# Altium schematic symbol library Resistors.SchLib: 113 symbols (part 1 of 2)
Pins are listed as number, name and electrical type; pins without a type are passive.

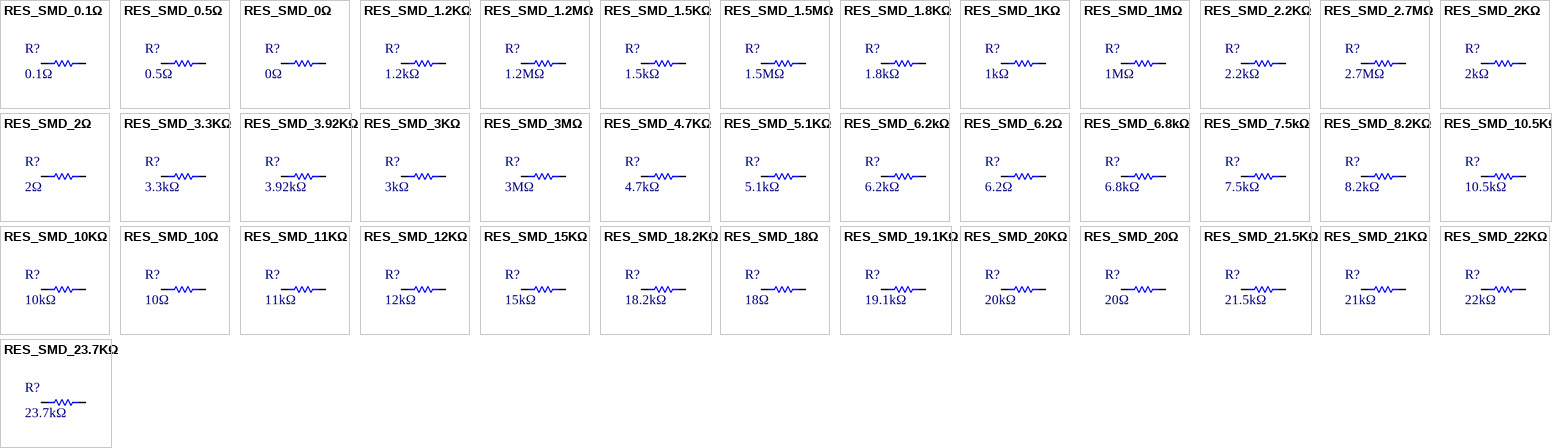
[diagram p0: symbols RES_SMD_0.1Ω to RES_SMD_23.7KΩ]

## RES_SMD_0.1Ω
designator R?, comment 0.1Ω
Resistor, Thick Film Resistor, SMD, 0.1Ω, ±5%, Chip Resistor - Surface Mount, ROHS; Value: 0.1Ω
footprint RES_SMD_R0201A_(M0603A) (Resistor, SMD, 0.5x0.25mm, 0201)
footprint RES_SMD_R0201_(M0603) (Resistor, SMD, 0.5x0.25mm, 0201)
footprint RES_SMD_R0402A_(M1005A) (Resistor, SMD, 1.0x0.5mm, 0402)
footprint RES_SMD_R0402_(M1005) (Resistor, SMD, 1.0x0.5mm, 0402)
footprint RES_SMD_R0603A_(M1608A) (Resistor, SMD, 1.6x0.8mm, 0603)
footprint RES_SMD_R0603_(M1608) (Resistor, SMD, 1.6x0.8mm, 0603)
footprint RES_SMD_R0805A_(M2012A) (Resistor, SMD, 2.0x1.3mm, 0805)
footprint RES_SMD_R0805_(M2012) (Resistor, SMD, 2.0x1.3mm, 0805)
footprint RES_SMD_R1206A_(M3216A) (Resistor, SMD, 3.2x1.6mm, 1206)
footprint RES_SMD_R1206_(M3216) (Resistor, SMD, 3.2x1.6mm, 1206)
footprint RES_SMD_R2512_(M6332) (Resistor, SMD, 2510)
footprint RES_SMD_R0603_(M1608)_R0402A_(M1005A) (Resistor, SMD, 1.6x0.8mm, 0603)
pins: 1, 2

## RES_SMD_0.5Ω
designator R?, comment 0.5Ω
Resistor, Thick Film Resistor, SMD, 0.5Ω, ±5%, Chip Resistor - Surface Mount, ROHS; Value: 0.5Ω
footprint RES_SMD_R0201A_(M0603A) (Resistor, SMD, 0.5x0.25mm, 0201)
footprint RES_SMD_R0201_(M0603) (Resistor, SMD, 0.5x0.25mm, 0201)
footprint RES_SMD_R0402A_(M1005A) (Resistor, SMD, 1.0x0.5mm, 0402)
footprint RES_SMD_R0402_(M1005) (Resistor, SMD, 1.0x0.5mm, 0402)
footprint RES_SMD_R0603A_(M1608A) (Resistor, SMD, 1.6x0.8mm, 0603)
footprint RES_SMD_R0603_(M1608) (Resistor, SMD, 1.6x0.8mm, 0603)
footprint RES_SMD_R0805A_(M2012A) (Resistor, SMD, 2.0x1.3mm, 0805)
footprint RES_SMD_R0805_(M2012) (Resistor, SMD, 2.0x1.3mm, 0805)
footprint RES_SMD_R1206A_(M3216A) (Resistor, SMD, 3.2x1.6mm, 1206)
footprint RES_SMD_R1206_(M3216) (Resistor, SMD, 3.2x1.6mm, 1206)
footprint RES_SMD_R2512_(M6332) (Resistor, SMD, 2510)
footprint RES_SMD_R0603_(M1608)_R0402A_(M1005A) (Resistor, SMD, 1.6x0.8mm, 0603)
pins: 1, 2

## RES_SMD_0Ω
designator R?, comment 0Ω
Resistor, Thick Film Resistor, SMD, 0Ω, ±5%, Chip Resistor - Surface Mount, ROHS; Value: 0Ω
footprint RES_SMD_R0201A_(M0603A) (Resistor, SMD, 0.5x0.25mm, 0201)
footprint RES_SMD_R0201_(M0603) (Resistor, SMD, 0.5x0.25mm, 0201)
footprint RES_SMD_R0402A_(M1005A) (Resistor, SMD, 1.0x0.5mm, 0402)
footprint RES_SMD_R0402_(M1005) (Resistor, SMD, 1.0x0.5mm, 0402)
footprint RES_SMD_R0603A_(M1608A) (Resistor, SMD, 1.6x0.8mm, 0603)
footprint RES_SMD_R0603_(M1608) (Resistor, SMD, 1.6x0.8mm, 0603)
footprint RES_SMD_R0805A_(M2012A) (Resistor, SMD, 2.0x1.3mm, 0805)
footprint RES_SMD_R0805_(M2012) (Resistor, SMD, 2.0x1.3mm, 0805)
footprint RES_SMD_R1206A_(M3216A) (Resistor, SMD, 3.2x1.6mm, 1206)
footprint RES_SMD_R1206_(M3216) (Resistor, SMD, 3.2x1.6mm, 1206)
footprint RES_SMD_R2512_(M6332) (Resistor, SMD, 2510)
footprint RES_SMD_R0603_(M1608)_R0402A_(M1005A) (Resistor, SMD, 1.6x0.8mm, 0603)
pins: 1, 2

## RES_SMD_1.2KΩ
designator R?, comment 1.2kΩ
Resistor, Thick Film Resistor, SMD, 1.2kΩ, ±5%, Chip Resistor - Surface Mount, ROHS; Value: 1.2kΩ
footprint RES_SMD_R0201A_(M0603A) (Resistor, SMD, 0.5x0.25mm, 0201)
footprint RES_SMD_R0201_(M0603) (Resistor, SMD, 0.5x0.25mm, 0201)
footprint RES_SMD_R0402A_(M1005A) (Resistor, SMD, 1.0x0.5mm, 0402)
footprint RES_SMD_R0402_(M1005) (Resistor, SMD, 1.0x0.5mm, 0402)
footprint RES_SMD_R0603A_(M1608A) (Resistor, SMD, 1.6x0.8mm, 0603)
footprint RES_SMD_R0603_(M1608) (Resistor, SMD, 1.6x0.8mm, 0603)
footprint RES_SMD_R0805A_(M2012A) (Resistor, SMD, 2.0x1.3mm, 0805)
footprint RES_SMD_R0805_(M2012) (Resistor, SMD, 2.0x1.3mm, 0805)
footprint RES_SMD_R1206A_(M3216A) (Resistor, SMD, 3.2x1.6mm, 1206)
footprint RES_SMD_R1206_(M3216) (Resistor, SMD, 3.2x1.6mm, 1206)
footprint RES_SMD_R2512_(M6332) (Resistor, SMD, 2510)
footprint RES_SMD_R0603_(M1608)_R0402A_(M1005A) (Resistor, SMD, 1.6x0.8mm, 0603)
pins: 1, 2

## RES_SMD_1.2MΩ
designator R?, comment 1.2MΩ
Resistor, Thick Film Resistor, SMD, 1.2MΩ, ±5%, Chip Resistor - Surface Mount, ROHS; Value: 1.2MΩ
footprint RES_SMD_R0201A_(M0603A) (Resistor, SMD, 0.5x0.25mm, 0201)
footprint RES_SMD_R0201_(M0603) (Resistor, SMD, 0.5x0.25mm, 0201)
footprint RES_SMD_R0402A_(M1005A) (Resistor, SMD, 1.0x0.5mm, 0402)
footprint RES_SMD_R0402_(M1005) (Resistor, SMD, 1.0x0.5mm, 0402)
footprint RES_SMD_R0603A_(M1608A) (Resistor, SMD, 1.6x0.8mm, 0603)
footprint RES_SMD_R0603_(M1608) (Resistor, SMD, 1.6x0.8mm, 0603)
footprint RES_SMD_R0805A_(M2012A) (Resistor, SMD, 2.0x1.3mm, 0805)
footprint RES_SMD_R0805_(M2012) (Resistor, SMD, 2.0x1.3mm, 0805)
footprint RES_SMD_R1206A_(M3216A) (Resistor, SMD, 3.2x1.6mm, 1206)
footprint RES_SMD_R1206_(M3216) (Resistor, SMD, 3.2x1.6mm, 1206)
footprint RES_SMD_R2512_(M6332) (Resistor, SMD, 2510)
footprint RES_SMD_R0603_(M1608)_R0402A_(M1005A) (Resistor, SMD, 1.6x0.8mm, 0603)
pins: 1, 2

## RES_SMD_1.5KΩ
designator R?, comment 1.5kΩ
Resistor, Thick Film Resistor, SMD, 1.5kΩ, ±5%, Chip Resistor - Surface Mount, ROHS; Value: 1.5kΩ
footprint RES_SMD_R0201A_(M0603A) (Resistor, SMD, 0.5x0.25mm, 0201)
footprint RES_SMD_R0201_(M0603) (Resistor, SMD, 0.5x0.25mm, 0201)
footprint RES_SMD_R0402A_(M1005A) (Resistor, SMD, 1.0x0.5mm, 0402)
footprint RES_SMD_R0402_(M1005) (Resistor, SMD, 1.0x0.5mm, 0402)
footprint RES_SMD_R0603A_(M1608A) (Resistor, SMD, 1.6x0.8mm, 0603)
footprint RES_SMD_R0603_(M1608) (Resistor, SMD, 1.6x0.8mm, 0603)
footprint RES_SMD_R0805A_(M2012A) (Resistor, SMD, 2.0x1.3mm, 0805)
footprint RES_SMD_R0805_(M2012) (Resistor, SMD, 2.0x1.3mm, 0805)
footprint RES_SMD_R1206A_(M3216A) (Resistor, SMD, 3.2x1.6mm, 1206)
footprint RES_SMD_R1206_(M3216) (Resistor, SMD, 3.2x1.6mm, 1206)
footprint RES_SMD_R2512_(M6332) (Resistor, SMD, 2510)
footprint RES_SMD_R0603_(M1608)_R0402A_(M1005A) (Resistor, SMD, 1.6x0.8mm, 0603)
pins: 1, 2

## RES_SMD_1.5MΩ
designator R?, comment 1.5MΩ
Resistor, Thick Film Resistor, SMD, 1.5MΩ, ±5%, Chip Resistor - Surface Mount, ROHS; Value: 1.5MΩ
footprint RES_SMD_R0201A_(M0603A) (Resistor, SMD, 0.5x0.25mm, 0201)
footprint RES_SMD_R0201_(M0603) (Resistor, SMD, 0.5x0.25mm, 0201)
footprint RES_SMD_R0402A_(M1005A) (Resistor, SMD, 1.0x0.5mm, 0402)
footprint RES_SMD_R0402_(M1005) (Resistor, SMD, 1.0x0.5mm, 0402)
footprint RES_SMD_R0603A_(M1608A) (Resistor, SMD, 1.6x0.8mm, 0603)
footprint RES_SMD_R0603_(M1608) (Resistor, SMD, 1.6x0.8mm, 0603)
footprint RES_SMD_R0805A_(M2012A) (Resistor, SMD, 2.0x1.3mm, 0805)
footprint RES_SMD_R0805_(M2012) (Resistor, SMD, 2.0x1.3mm, 0805)
footprint RES_SMD_R1206A_(M3216A) (Resistor, SMD, 3.2x1.6mm, 1206)
footprint RES_SMD_R1206_(M3216) (Resistor, SMD, 3.2x1.6mm, 1206)
footprint RES_SMD_R2512_(M6332) (Resistor, SMD, 2510)
footprint RES_SMD_R0603_(M1608)_R0402A_(M1005A) (Resistor, SMD, 1.6x0.8mm, 0603)
pins: 1, 2

## RES_SMD_1.8KΩ
designator R?, comment 1.8kΩ
Resistor, Thick Film Resistor, SMD, 1.8kΩ, ±5%, Chip Resistor - Surface Mount, ROHS; Value: 1.8kΩ
footprint RES_SMD_R0201A_(M0603A) (Resistor, SMD, 0.5x0.25mm, 0201)
footprint RES_SMD_R0201_(M0603) (Resistor, SMD, 0.5x0.25mm, 0201)
footprint RES_SMD_R0402A_(M1005A) (Resistor, SMD, 1.0x0.5mm, 0402)
footprint RES_SMD_R0402_(M1005) (Resistor, SMD, 1.0x0.5mm, 0402)
footprint RES_SMD_R0603A_(M1608A) (Resistor, SMD, 1.6x0.8mm, 0603)
footprint RES_SMD_R0603_(M1608) (Resistor, SMD, 1.6x0.8mm, 0603)
footprint RES_SMD_R0805A_(M2012A) (Resistor, SMD, 2.0x1.3mm, 0805)
footprint RES_SMD_R0805_(M2012) (Resistor, SMD, 2.0x1.3mm, 0805)
footprint RES_SMD_R1206A_(M3216A) (Resistor, SMD, 3.2x1.6mm, 1206)
footprint RES_SMD_R1206_(M3216) (Resistor, SMD, 3.2x1.6mm, 1206)
footprint RES_SMD_R2512_(M6332) (Resistor, SMD, 2510)
footprint RES_SMD_R0603_(M1608)_R0402A_(M1005A) (Resistor, SMD, 1.6x0.8mm, 0603)
pins: 1, 2

## RES_SMD_1KΩ
designator R?, comment 1kΩ
Resistor, Thick Film Resistor, SMD, 1kΩ, ±5%, Chip Resistor - Surface Mount, ROHS; Value: 1kΩ
footprint RES_SMD_R0201A_(M0603A) (Resistor, SMD, 0.5x0.25mm, 0201)
footprint RES_SMD_R0201_(M0603) (Resistor, SMD, 0.5x0.25mm, 0201)
footprint RES_SMD_R0402A_(M1005A) (Resistor, SMD, 1.0x0.5mm, 0402)
footprint RES_SMD_R0402_(M1005) (Resistor, SMD, 1.0x0.5mm, 0402)
footprint RES_SMD_R0603A_(M1608A) (Resistor, SMD, 1.6x0.8mm, 0603)
footprint RES_SMD_R0603_(M1608) (Resistor, SMD, 1.6x0.8mm, 0603)
footprint RES_SMD_R0805A_(M2012A) (Resistor, SMD, 2.0x1.3mm, 0805)
footprint RES_SMD_R0805_(M2012) (Resistor, SMD, 2.0x1.3mm, 0805)
footprint RES_SMD_R1206A_(M3216A) (Resistor, SMD, 3.2x1.6mm, 1206)
footprint RES_SMD_R1206_(M3216) (Resistor, SMD, 3.2x1.6mm, 1206)
footprint RES_SMD_R2512_(M6332) (Resistor, SMD, 2510)
footprint RES_SMD_R0603_(M1608)_R0402A_(M1005A) (Resistor, SMD, 1.6x0.8mm, 0603)
pins: 1, 2

## RES_SMD_1MΩ
designator R?, comment 1MΩ
Resistor, Thick Film Resistor, SMD, 1MΩ, ±5%, Chip Resistor - Surface Mount, ROHS; Value: 1MΩ
footprint RES_SMD_R0201A_(M0603A) (Resistor, SMD, 0.5x0.25mm, 0201)
footprint RES_SMD_R0201_(M0603) (Resistor, SMD, 0.5x0.25mm, 0201)
footprint RES_SMD_R0402A_(M1005A) (Resistor, SMD, 1.0x0.5mm, 0402)
footprint RES_SMD_R0402_(M1005) (Resistor, SMD, 1.0x0.5mm, 0402)
footprint RES_SMD_R0603A_(M1608A) (Resistor, SMD, 1.6x0.8mm, 0603)
footprint RES_SMD_R0603_(M1608) (Resistor, SMD, 1.6x0.8mm, 0603)
footprint RES_SMD_R0805A_(M2012A) (Resistor, SMD, 2.0x1.3mm, 0805)
footprint RES_SMD_R0805_(M2012) (Resistor, SMD, 2.0x1.3mm, 0805)
footprint RES_SMD_R1206A_(M3216A) (Resistor, SMD, 3.2x1.6mm, 1206)
footprint RES_SMD_R1206_(M3216) (Resistor, SMD, 3.2x1.6mm, 1206)
footprint RES_SMD_R2512_(M6332) (Resistor, SMD, 2510)
footprint RES_SMD_R0603_(M1608)_R0402A_(M1005A) (Resistor, SMD, 1.6x0.8mm, 0603)
pins: 1, 2

## RES_SMD_2.2KΩ
designator R?, comment 2.2kΩ
Resistor, Thick Film Resistor, SMD, 2.2kΩ, ±5%, Chip Resistor - Surface Mount, ROHS; Value: 2.2kΩ
footprint RES_SMD_R0201A_(M0603A) (Resistor, SMD, 0.5x0.25mm, 0201)
footprint RES_SMD_R0201_(M0603) (Resistor, SMD, 0.5x0.25mm, 0201)
footprint RES_SMD_R0402A_(M1005A) (Resistor, SMD, 1.0x0.5mm, 0402)
footprint RES_SMD_R0402_(M1005) (Resistor, SMD, 1.0x0.5mm, 0402)
footprint RES_SMD_R0603A_(M1608A) (Resistor, SMD, 1.6x0.8mm, 0603)
footprint RES_SMD_R0603_(M1608) (Resistor, SMD, 1.6x0.8mm, 0603)
footprint RES_SMD_R0805A_(M2012A) (Resistor, SMD, 2.0x1.3mm, 0805)
footprint RES_SMD_R0805_(M2012) (Resistor, SMD, 2.0x1.3mm, 0805)
footprint RES_SMD_R1206A_(M3216A) (Resistor, SMD, 3.2x1.6mm, 1206)
footprint RES_SMD_R1206_(M3216) (Resistor, SMD, 3.2x1.6mm, 1206)
footprint RES_SMD_R2512_(M6332) (Resistor, SMD, 2510)
footprint RES_SMD_R0603_(M1608)_R0402A_(M1005A) (Resistor, SMD, 1.6x0.8mm, 0603)
pins: 1, 2

## RES_SMD_2.7MΩ
designator R?, comment 2.7MΩ
Resistor, Thick Film Resistor, SMD, 2.7MΩ, ±5%, Chip Resistor - Surface Mount, ROHS; Value: 2.7MΩ
footprint RES_SMD_R0201A_(M0603A) (Resistor, SMD, 0.5x0.25mm, 0201)
footprint RES_SMD_R0201_(M0603) (Resistor, SMD, 0.5x0.25mm, 0201)
footprint RES_SMD_R0402A_(M1005A) (Resistor, SMD, 1.0x0.5mm, 0402)
footprint RES_SMD_R0402_(M1005) (Resistor, SMD, 1.0x0.5mm, 0402)
footprint RES_SMD_R0603A_(M1608A) (Resistor, SMD, 1.6x0.8mm, 0603)
footprint RES_SMD_R0603_(M1608) (Resistor, SMD, 1.6x0.8mm, 0603)
footprint RES_SMD_R0805A_(M2012A) (Resistor, SMD, 2.0x1.3mm, 0805)
footprint RES_SMD_R0805_(M2012) (Resistor, SMD, 2.0x1.3mm, 0805)
footprint RES_SMD_R1206A_(M3216A) (Resistor, SMD, 3.2x1.6mm, 1206)
footprint RES_SMD_R1206_(M3216) (Resistor, SMD, 3.2x1.6mm, 1206)
footprint RES_SMD_R2512_(M6332) (Resistor, SMD, 2510)
footprint RES_SMD_R0603_(M1608)_R0402A_(M1005A) (Resistor, SMD, 1.6x0.8mm, 0603)
pins: 1, 2

## RES_SMD_2KΩ
designator R?, comment 2kΩ
Resistor, Thick Film Resistor, SMD, 2kΩ, ±5%, Chip Resistor - Surface Mount, ROHS; Value: 2kΩ
footprint RES_SMD_R0201A_(M0603A) (Resistor, SMD, 0.5x0.25mm, 0201)
footprint RES_SMD_R0201_(M0603) (Resistor, SMD, 0.5x0.25mm, 0201)
footprint RES_SMD_R0402A_(M1005A) (Resistor, SMD, 1.0x0.5mm, 0402)
footprint RES_SMD_R0402_(M1005) (Resistor, SMD, 1.0x0.5mm, 0402)
footprint RES_SMD_R0603A_(M1608A) (Resistor, SMD, 1.6x0.8mm, 0603)
footprint RES_SMD_R0603_(M1608) (Resistor, SMD, 1.6x0.8mm, 0603)
footprint RES_SMD_R0805A_(M2012A) (Resistor, SMD, 2.0x1.3mm, 0805)
footprint RES_SMD_R0805_(M2012) (Resistor, SMD, 2.0x1.3mm, 0805)
footprint RES_SMD_R1206A_(M3216A) (Resistor, SMD, 3.2x1.6mm, 1206)
footprint RES_SMD_R1206_(M3216) (Resistor, SMD, 3.2x1.6mm, 1206)
footprint RES_SMD_R2512_(M6332) (Resistor, SMD, 2510)
footprint RES_SMD_R0603_(M1608)_R0402A_(M1005A) (Resistor, SMD, 1.6x0.8mm, 0603)
pins: 1, 2

## RES_SMD_2Ω
designator R?, comment 2Ω
Resistor, Thick Film Resistor, SMD, 2Ω, ±5%, Chip Resistor - Surface Mount, ROHS; Value: 2Ω
footprint RES_SMD_R0201A_(M0603A) (Resistor, SMD, 0.5x0.25mm, 0201)
footprint RES_SMD_R0201_(M0603) (Resistor, SMD, 0.5x0.25mm, 0201)
footprint RES_SMD_R0402A_(M1005A) (Resistor, SMD, 1.0x0.5mm, 0402)
footprint RES_SMD_R0402_(M1005) (Resistor, SMD, 1.0x0.5mm, 0402)
footprint RES_SMD_R0603A_(M1608A) (Resistor, SMD, 1.6x0.8mm, 0603)
footprint RES_SMD_R0603_(M1608) (Resistor, SMD, 1.6x0.8mm, 0603)
footprint RES_SMD_R0805A_(M2012A) (Resistor, SMD, 2.0x1.3mm, 0805)
footprint RES_SMD_R0805_(M2012) (Resistor, SMD, 2.0x1.3mm, 0805)
footprint RES_SMD_R1206A_(M3216A) (Resistor, SMD, 3.2x1.6mm, 1206)
footprint RES_SMD_R1206_(M3216) (Resistor, SMD, 3.2x1.6mm, 1206)
footprint RES_SMD_R2512_(M6332) (Resistor, SMD, 2510)
footprint RES_SMD_R0603_(M1608)_R0402A_(M1005A) (Resistor, SMD, 1.6x0.8mm, 0603)
pins: 1, 2

## RES_SMD_3.3KΩ
designator R?, comment 3.3kΩ
Resistor, Thick Film Resistor, SMD, 3.3kΩ, ±5%, Chip Resistor - Surface Mount, ROHS; Value: 3.3kΩ
footprint RES_SMD_R0201A_(M0603A) (Resistor, SMD, 0.5x0.25mm, 0201)
footprint RES_SMD_R0201_(M0603) (Resistor, SMD, 0.5x0.25mm, 0201)
footprint RES_SMD_R0402A_(M1005A) (Resistor, SMD, 1.0x0.5mm, 0402)
footprint RES_SMD_R0402_(M1005) (Resistor, SMD, 1.0x0.5mm, 0402)
footprint RES_SMD_R0603A_(M1608A) (Resistor, SMD, 1.6x0.8mm, 0603)
footprint RES_SMD_R0603_(M1608) (Resistor, SMD, 1.6x0.8mm, 0603)
footprint RES_SMD_R0805A_(M2012A) (Resistor, SMD, 2.0x1.3mm, 0805)
footprint RES_SMD_R0805_(M2012) (Resistor, SMD, 2.0x1.3mm, 0805)
footprint RES_SMD_R1206A_(M3216A) (Resistor, SMD, 3.2x1.6mm, 1206)
footprint RES_SMD_R1206_(M3216) (Resistor, SMD, 3.2x1.6mm, 1206)
footprint RES_SMD_R2512_(M6332) (Resistor, SMD, 2510)
footprint RES_SMD_R0603_(M1608)_R0402A_(M1005A) (Resistor, SMD, 1.6x0.8mm, 0603)
pins: 1, 2

## RES_SMD_3.92KΩ
designator R?, comment 3.92kΩ
Resistor, Thick Film Resistor, SMD, 3.92kΩ, ±5%, Chip Resistor - Surface Mount, ROHS; Value: 3.92kΩ
footprint RES_SMD_R0201A_(M0603A) (Resistor, SMD, 0.5x0.25mm, 0201)
footprint RES_SMD_R0201_(M0603) (Resistor, SMD, 0.5x0.25mm, 0201)
footprint RES_SMD_R0402A_(M1005A) (Resistor, SMD, 1.0x0.5mm, 0402)
footprint RES_SMD_R0402_(M1005) (Resistor, SMD, 1.0x0.5mm, 0402)
footprint RES_SMD_R0603A_(M1608A) (Resistor, SMD, 1.6x0.8mm, 0603)
footprint RES_SMD_R0603_(M1608) (Resistor, SMD, 1.6x0.8mm, 0603)
footprint RES_SMD_R0805A_(M2012A) (Resistor, SMD, 2.0x1.3mm, 0805)
footprint RES_SMD_R0805_(M2012) (Resistor, SMD, 2.0x1.3mm, 0805)
footprint RES_SMD_R1206A_(M3216A) (Resistor, SMD, 3.2x1.6mm, 1206)
footprint RES_SMD_R1206_(M3216) (Resistor, SMD, 3.2x1.6mm, 1206)
footprint RES_SMD_R2512_(M6332) (Resistor, SMD, 2510)
footprint RES_SMD_R0603_(M1608)_R0402A_(M1005A) (Resistor, SMD, 1.6x0.8mm, 0603)
pins: 1, 2

## RES_SMD_3KΩ
designator R?, comment 3kΩ
Resistor, Thick Film Resistor, SMD, 3kΩ, ±5%, Chip Resistor - Surface Mount, ROHS; Value: 3kΩ
footprint RES_SMD_R0201A_(M0603A) (Resistor, SMD, 0.5x0.25mm, 0201)
footprint RES_SMD_R0201_(M0603) (Resistor, SMD, 0.5x0.25mm, 0201)
footprint RES_SMD_R0402A_(M1005A) (Resistor, SMD, 1.0x0.5mm, 0402)
footprint RES_SMD_R0402_(M1005) (Resistor, SMD, 1.0x0.5mm, 0402)
footprint RES_SMD_R0603A_(M1608A) (Resistor, SMD, 1.6x0.8mm, 0603)
footprint RES_SMD_R0603_(M1608) (Resistor, SMD, 1.6x0.8mm, 0603)
footprint RES_SMD_R0805A_(M2012A) (Resistor, SMD, 2.0x1.3mm, 0805)
footprint RES_SMD_R0805_(M2012) (Resistor, SMD, 2.0x1.3mm, 0805)
footprint RES_SMD_R1206A_(M3216A) (Resistor, SMD, 3.2x1.6mm, 1206)
footprint RES_SMD_R1206_(M3216) (Resistor, SMD, 3.2x1.6mm, 1206)
footprint RES_SMD_R2512_(M6332) (Resistor, SMD, 2510)
footprint RES_SMD_R0603_(M1608)_R0402A_(M1005A) (Resistor, SMD, 1.6x0.8mm, 0603)
pins: 1, 2

## RES_SMD_3MΩ
designator R?, comment 3MΩ
Resistor, Thick Film Resistor, SMD, 3MΩ, ±5%, Chip Resistor - Surface Mount, ROHS; Value: 3MΩ
footprint RES_SMD_R0201A_(M0603A) (Resistor, SMD, 0.5x0.25mm, 0201)
footprint RES_SMD_R0201_(M0603) (Resistor, SMD, 0.5x0.25mm, 0201)
footprint RES_SMD_R0402A_(M1005A) (Resistor, SMD, 1.0x0.5mm, 0402)
footprint RES_SMD_R0402_(M1005) (Resistor, SMD, 1.0x0.5mm, 0402)
footprint RES_SMD_R0603A_(M1608A) (Resistor, SMD, 1.6x0.8mm, 0603)
footprint RES_SMD_R0603_(M1608) (Resistor, SMD, 1.6x0.8mm, 0603)
footprint RES_SMD_R0805A_(M2012A) (Resistor, SMD, 2.0x1.3mm, 0805)
footprint RES_SMD_R0805_(M2012) (Resistor, SMD, 2.0x1.3mm, 0805)
footprint RES_SMD_R1206A_(M3216A) (Resistor, SMD, 3.2x1.6mm, 1206)
footprint RES_SMD_R1206_(M3216) (Resistor, SMD, 3.2x1.6mm, 1206)
footprint RES_SMD_R2512_(M6332) (Resistor, SMD, 2510)
footprint RES_SMD_R0603_(M1608)_R0402A_(M1005A) (Resistor, SMD, 1.6x0.8mm, 0603)
pins: 1, 2

## RES_SMD_4.7KΩ
designator R?, comment 4.7kΩ
Resistor, Thick Film Resistor, SMD, 4.7kΩ, ±5%, Chip Resistor - Surface Mount, ROHS; Value: 4.7kΩ
footprint RES_SMD_R0201A_(M0603A) (Resistor, SMD, 0.5x0.25mm, 0201)
footprint RES_SMD_R0201_(M0603) (Resistor, SMD, 0.5x0.25mm, 0201)
footprint RES_SMD_R0402A_(M1005A) (Resistor, SMD, 1.0x0.5mm, 0402)
footprint RES_SMD_R0402_(M1005) (Resistor, SMD, 1.0x0.5mm, 0402)
footprint RES_SMD_R0603A_(M1608A) (Resistor, SMD, 1.6x0.8mm, 0603)
footprint RES_SMD_R0603_(M1608) (Resistor, SMD, 1.6x0.8mm, 0603)
footprint RES_SMD_R0805A_(M2012A) (Resistor, SMD, 2.0x1.3mm, 0805)
footprint RES_SMD_R0805_(M2012) (Resistor, SMD, 2.0x1.3mm, 0805)
footprint RES_SMD_R1206A_(M3216A) (Resistor, SMD, 3.2x1.6mm, 1206)
footprint RES_SMD_R1206_(M3216) (Resistor, SMD, 3.2x1.6mm, 1206)
footprint RES_SMD_R2512_(M6332) (Resistor, SMD, 2510)
footprint RES_SMD_R0603_(M1608)_R0402A_(M1005A) (Resistor, SMD, 1.6x0.8mm, 0603)
pins: 1, 2

## RES_SMD_5.1KΩ
designator R?, comment 5.1kΩ
Resistor, Thick Film Resistor, SMD, 5.1kΩ, ±5%, Chip Resistor - Surface Mount, ROHS; Value: 5.1kΩ
footprint RES_SMD_R0201A_(M0603A) (Resistor, SMD, 0.5x0.25mm, 0201)
footprint RES_SMD_R0201_(M0603) (Resistor, SMD, 0.5x0.25mm, 0201)
footprint RES_SMD_R0402A_(M1005A) (Resistor, SMD, 1.0x0.5mm, 0402)
footprint RES_SMD_R0402_(M1005) (Resistor, SMD, 1.0x0.5mm, 0402)
footprint RES_SMD_R0603A_(M1608A) (Resistor, SMD, 1.6x0.8mm, 0603)
footprint RES_SMD_R0603_(M1608) (Resistor, SMD, 1.6x0.8mm, 0603)
footprint RES_SMD_R0805A_(M2012A) (Resistor, SMD, 2.0x1.3mm, 0805)
footprint RES_SMD_R0805_(M2012) (Resistor, SMD, 2.0x1.3mm, 0805)
footprint RES_SMD_R1206A_(M3216A) (Resistor, SMD, 3.2x1.6mm, 1206)
footprint RES_SMD_R1206_(M3216) (Resistor, SMD, 3.2x1.6mm, 1206)
footprint RES_SMD_R2512_(M6332) (Resistor, SMD, 2510)
footprint RES_SMD_R0603_(M1608)_R0402A_(M1005A) (Resistor, SMD, 1.6x0.8mm, 0603)
pins: 1, 2

## RES_SMD_6.2kΩ
designator R?, comment 6.2kΩ
Resistor, Thick Film Resistor, SMD, 6.2kΩ, ±5%, Chip Resistor - Surface Mount, ROHS; Value: 6.2kΩ
footprint RES_SMD_R0201A_(M0603A) (Resistor, SMD, 0.5x0.25mm, 0201)
footprint RES_SMD_R0201_(M0603) (Resistor, SMD, 0.5x0.25mm, 0201)
footprint RES_SMD_R0402A_(M1005A) (Resistor, SMD, 1.0x0.5mm, 0402)
footprint RES_SMD_R0402_(M1005) (Resistor, SMD, 1.0x0.5mm, 0402)
footprint RES_SMD_R0603A_(M1608A) (Resistor, SMD, 1.6x0.8mm, 0603)
footprint RES_SMD_R0603_(M1608) (Resistor, SMD, 1.6x0.8mm, 0603)
footprint RES_SMD_R0805A_(M2012A) (Resistor, SMD, 2.0x1.3mm, 0805)
footprint RES_SMD_R0805_(M2012) (Resistor, SMD, 2.0x1.3mm, 0805)
footprint RES_SMD_R1206A_(M3216A) (Resistor, SMD, 3.2x1.6mm, 1206)
footprint RES_SMD_R1206_(M3216) (Resistor, SMD, 3.2x1.6mm, 1206)
footprint RES_SMD_R2512_(M6332) (Resistor, SMD, 2510)
footprint RES_SMD_R0603_(M1608)_R0402A_(M1005A) (Resistor, SMD, 1.6x0.8mm, 0603)
pins: 1, 2

## RES_SMD_6.2Ω
designator R?, comment 6.2Ω
Resistor, Thick Film Resistor, SMD, 6.2Ω, ±5%, Chip Resistor - Surface Mount, ROHS; Value: 6.2Ω
footprint RES_SMD_R0201A_(M0603A) (Resistor, SMD, 0.5x0.25mm, 0201)
footprint RES_SMD_R0201_(M0603) (Resistor, SMD, 0.5x0.25mm, 0201)
footprint RES_SMD_R0402A_(M1005A) (Resistor, SMD, 1.0x0.5mm, 0402)
footprint RES_SMD_R0402_(M1005) (Resistor, SMD, 1.0x0.5mm, 0402)
footprint RES_SMD_R0603A_(M1608A) (Resistor, SMD, 1.6x0.8mm, 0603)
footprint RES_SMD_R0603_(M1608) (Resistor, SMD, 1.6x0.8mm, 0603)
footprint RES_SMD_R0805A_(M2012A) (Resistor, SMD, 2.0x1.3mm, 0805)
footprint RES_SMD_R0805_(M2012) (Resistor, SMD, 2.0x1.3mm, 0805)
footprint RES_SMD_R1206A_(M3216A) (Resistor, SMD, 3.2x1.6mm, 1206)
footprint RES_SMD_R1206_(M3216) (Resistor, SMD, 3.2x1.6mm, 1206)
footprint RES_SMD_R2512_(M6332) (Resistor, SMD, 2510)
footprint RES_SMD_R0603_(M1608)_R0402A_(M1005A) (Resistor, SMD, 1.6x0.8mm, 0603)
pins: 1, 2

## RES_SMD_6.8kΩ
designator R?, comment 6.8kΩ
Resistor, Thick Film Resistor, SMD, 6.8kΩ, ±5%, Chip Resistor - Surface Mount, ROHS; Value: 6.8kΩ
footprint RES_SMD_R0201A_(M0603A) (Resistor, SMD, 0.5x0.25mm, 0201)
footprint RES_SMD_R0201_(M0603) (Resistor, SMD, 0.5x0.25mm, 0201)
footprint RES_SMD_R0402A_(M1005A) (Resistor, SMD, 1.0x0.5mm, 0402)
footprint RES_SMD_R0402_(M1005) (Resistor, SMD, 1.0x0.5mm, 0402)
footprint RES_SMD_R0603A_(M1608A) (Resistor, SMD, 1.6x0.8mm, 0603)
footprint RES_SMD_R0603_(M1608) (Resistor, SMD, 1.6x0.8mm, 0603)
footprint RES_SMD_R0805A_(M2012A) (Resistor, SMD, 2.0x1.3mm, 0805)
footprint RES_SMD_R0805_(M2012) (Resistor, SMD, 2.0x1.3mm, 0805)
footprint RES_SMD_R1206A_(M3216A) (Resistor, SMD, 3.2x1.6mm, 1206)
footprint RES_SMD_R1206_(M3216) (Resistor, SMD, 3.2x1.6mm, 1206)
footprint RES_SMD_R2512_(M6332) (Resistor, SMD, 2510)
footprint RES_SMD_R0603_(M1608)_R0402A_(M1005A) (Resistor, SMD, 1.6x0.8mm, 0603)
pins: 1, 2

## RES_SMD_7.5kΩ
designator R?, comment 7.5kΩ
Resistor, Thick Film Resistor, SMD, 7.5kΩ, ±5%, Chip Resistor - Surface Mount, ROHS; Value: 7.5kΩ
footprint RES_SMD_R0201A_(M0603A) (Resistor, SMD, 0.5x0.25mm, 0201)
footprint RES_SMD_R0201_(M0603) (Resistor, SMD, 0.5x0.25mm, 0201)
footprint RES_SMD_R0402A_(M1005A) (Resistor, SMD, 1.0x0.5mm, 0402)
footprint RES_SMD_R0402_(M1005) (Resistor, SMD, 1.0x0.5mm, 0402)
footprint RES_SMD_R0603A_(M1608A) (Resistor, SMD, 1.6x0.8mm, 0603)
footprint RES_SMD_R0603_(M1608) (Resistor, SMD, 1.6x0.8mm, 0603)
footprint RES_SMD_R0805A_(M2012A) (Resistor, SMD, 2.0x1.3mm, 0805)
footprint RES_SMD_R0805_(M2012) (Resistor, SMD, 2.0x1.3mm, 0805)
footprint RES_SMD_R1206A_(M3216A) (Resistor, SMD, 3.2x1.6mm, 1206)
footprint RES_SMD_R1206_(M3216) (Resistor, SMD, 3.2x1.6mm, 1206)
footprint RES_SMD_R2512_(M6332) (Resistor, SMD, 2510)
footprint RES_SMD_R0603_(M1608)_R0402A_(M1005A) (Resistor, SMD, 1.6x0.8mm, 0603)
pins: 1, 2

## RES_SMD_8.2KΩ
designator R?, comment 8.2kΩ
Resistor, Thick Film Resistor, SMD, 8.2kΩ, ±5%, Chip Resistor - Surface Mount, ROHS; Value: 8.2kΩ
footprint RES_SMD_R0201A_(M0603A) (Resistor, SMD, 0.5x0.25mm, 0201)
footprint RES_SMD_R0201_(M0603) (Resistor, SMD, 0.5x0.25mm, 0201)
footprint RES_SMD_R0402A_(M1005A) (Resistor, SMD, 1.0x0.5mm, 0402)
footprint RES_SMD_R0402_(M1005) (Resistor, SMD, 1.0x0.5mm, 0402)
footprint RES_SMD_R0603A_(M1608A) (Resistor, SMD, 1.6x0.8mm, 0603)
footprint RES_SMD_R0603_(M1608) (Resistor, SMD, 1.6x0.8mm, 0603)
footprint RES_SMD_R0805A_(M2012A) (Resistor, SMD, 2.0x1.3mm, 0805)
footprint RES_SMD_R0805_(M2012) (Resistor, SMD, 2.0x1.3mm, 0805)
footprint RES_SMD_R1206A_(M3216A) (Resistor, SMD, 3.2x1.6mm, 1206)
footprint RES_SMD_R1206_(M3216) (Resistor, SMD, 3.2x1.6mm, 1206)
footprint RES_SMD_R2512_(M6332) (Resistor, SMD, 2510)
footprint RES_SMD_R0603_(M1608)_R0402A_(M1005A) (Resistor, SMD, 1.6x0.8mm, 0603)
pins: 1, 2

## RES_SMD_10.5KΩ
designator R?, comment 10.5kΩ
Resistor, Thick Film Resistor, SMD, 10.5kΩ, ±5%, Chip Resistor - Surface Mount, ROHS; Value: 10.5kΩ
footprint RES_SMD_R0201A_(M0603A) (Resistor, SMD, 0.5x0.25mm, 0201)
footprint RES_SMD_R0201_(M0603) (Resistor, SMD, 0.5x0.25mm, 0201)
footprint RES_SMD_R0402A_(M1005A) (Resistor, SMD, 1.0x0.5mm, 0402)
footprint RES_SMD_R0402_(M1005) (Resistor, SMD, 1.0x0.5mm, 0402)
footprint RES_SMD_R0603A_(M1608A) (Resistor, SMD, 1.6x0.8mm, 0603)
footprint RES_SMD_R0603_(M1608) (Resistor, SMD, 1.6x0.8mm, 0603)
footprint RES_SMD_R0805A_(M2012A) (Resistor, SMD, 2.0x1.3mm, 0805)
footprint RES_SMD_R0805_(M2012) (Resistor, SMD, 2.0x1.3mm, 0805)
footprint RES_SMD_R1206A_(M3216A) (Resistor, SMD, 3.2x1.6mm, 1206)
footprint RES_SMD_R1206_(M3216) (Resistor, SMD, 3.2x1.6mm, 1206)
footprint RES_SMD_R2512_(M6332) (Resistor, SMD, 2510)
footprint RES_SMD_R0603_(M1608)_R0402A_(M1005A) (Resistor, SMD, 1.6x0.8mm, 0603)
pins: 1, 2

## RES_SMD_10KΩ
designator R?, comment 10kΩ
Resistor, Thick Film Resistor, SMD, 10kΩ, ±5%, Chip Resistor - Surface Mount, ROHS; Value: 10kΩ
footprint RES_SMD_R0201A_(M0603A) (Resistor, SMD, 0.5x0.25mm, 0201)
footprint RES_SMD_R0201_(M0603) (Resistor, SMD, 0.5x0.25mm, 0201)
footprint RES_SMD_R0402A_(M1005A) (Resistor, SMD, 1.0x0.5mm, 0402)
footprint RES_SMD_R0402_(M1005) (Resistor, SMD, 1.0x0.5mm, 0402)
footprint RES_SMD_R0603A_(M1608A) (Resistor, SMD, 1.6x0.8mm, 0603)
footprint RES_SMD_R0603_(M1608) (Resistor, SMD, 1.6x0.8mm, 0603)
footprint RES_SMD_R0805A_(M2012A) (Resistor, SMD, 2.0x1.3mm, 0805)
footprint RES_SMD_R0805_(M2012) (Resistor, SMD, 2.0x1.3mm, 0805)
footprint RES_SMD_R1206A_(M3216A) (Resistor, SMD, 3.2x1.6mm, 1206)
footprint RES_SMD_R1206_(M3216) (Resistor, SMD, 3.2x1.6mm, 1206)
footprint RES_SMD_R2512_(M6332) (Resistor, SMD, 2510)
footprint RES_SMD_R0603_(M1608)_R0402A_(M1005A) (Resistor, SMD, 1.6x0.8mm, 0603)
pins: 1, 2

## RES_SMD_10Ω
designator R?, comment 10Ω
Resistor, Thick Film Resistor, SMD, 10Ω, ±5%, Chip Resistor - Surface Mount, ROHS; Value: 10Ω
footprint RES_SMD_R0201A_(M0603A) (Resistor, SMD, 0.5x0.25mm, 0201)
footprint RES_SMD_R0201_(M0603) (Resistor, SMD, 0.5x0.25mm, 0201)
footprint RES_SMD_R0402A_(M1005A) (Resistor, SMD, 1.0x0.5mm, 0402)
footprint RES_SMD_R0402_(M1005) (Resistor, SMD, 1.0x0.5mm, 0402)
footprint RES_SMD_R0603A_(M1608A) (Resistor, SMD, 1.6x0.8mm, 0603)
footprint RES_SMD_R0603_(M1608) (Resistor, SMD, 1.6x0.8mm, 0603)
footprint RES_SMD_R0805A_(M2012A) (Resistor, SMD, 2.0x1.3mm, 0805)
footprint RES_SMD_R0805_(M2012) (Resistor, SMD, 2.0x1.3mm, 0805)
footprint RES_SMD_R1206A_(M3216A) (Resistor, SMD, 3.2x1.6mm, 1206)
footprint RES_SMD_R1206_(M3216) (Resistor, SMD, 3.2x1.6mm, 1206)
footprint RES_SMD_R2512_(M6332) (Resistor, SMD, 2510)
footprint RES_SMD_R0603_(M1608)_R0402A_(M1005A) (Resistor, SMD, 1.6x0.8mm, 0603)
pins: 1, 2

## RES_SMD_11KΩ
designator R?, comment 11kΩ
Resistor, Thick Film Resistor, SMD, 11kΩ, ±5%, Chip Resistor - Surface Mount, ROHS; Value: 11kΩ
footprint RES_SMD_R0201A_(M0603A) (Resistor, SMD, 0.5x0.25mm, 0201)
footprint RES_SMD_R0201_(M0603) (Resistor, SMD, 0.5x0.25mm, 0201)
footprint RES_SMD_R0402A_(M1005A) (Resistor, SMD, 1.0x0.5mm, 0402)
footprint RES_SMD_R0402_(M1005) (Resistor, SMD, 1.0x0.5mm, 0402)
footprint RES_SMD_R0603A_(M1608A) (Resistor, SMD, 1.6x0.8mm, 0603)
footprint RES_SMD_R0603_(M1608) (Resistor, SMD, 1.6x0.8mm, 0603)
footprint RES_SMD_R0805A_(M2012A) (Resistor, SMD, 2.0x1.3mm, 0805)
footprint RES_SMD_R0805_(M2012) (Resistor, SMD, 2.0x1.3mm, 0805)
footprint RES_SMD_R1206A_(M3216A) (Resistor, SMD, 3.2x1.6mm, 1206)
footprint RES_SMD_R1206_(M3216) (Resistor, SMD, 3.2x1.6mm, 1206)
footprint RES_SMD_R2512_(M6332) (Resistor, SMD, 2510)
footprint RES_SMD_R0603_(M1608)_R0402A_(M1005A) (Resistor, SMD, 1.6x0.8mm, 0603)
pins: 1, 2

## RES_SMD_12KΩ
designator R?, comment 12kΩ
Resistor, Thick Film Resistor, SMD, 12kΩ, ±5%, Chip Resistor - Surface Mount, ROHS; Value: 12kΩ
footprint RES_SMD_R0201A_(M0603A) (Resistor, SMD, 0.5x0.25mm, 0201)
footprint RES_SMD_R0201_(M0603) (Resistor, SMD, 0.5x0.25mm, 0201)
footprint RES_SMD_R0402A_(M1005A) (Resistor, SMD, 1.0x0.5mm, 0402)
footprint RES_SMD_R0402_(M1005) (Resistor, SMD, 1.0x0.5mm, 0402)
footprint RES_SMD_R0603A_(M1608A) (Resistor, SMD, 1.6x0.8mm, 0603)
footprint RES_SMD_R0603_(M1608) (Resistor, SMD, 1.6x0.8mm, 0603)
footprint RES_SMD_R0805A_(M2012A) (Resistor, SMD, 2.0x1.3mm, 0805)
footprint RES_SMD_R0805_(M2012) (Resistor, SMD, 2.0x1.3mm, 0805)
footprint RES_SMD_R1206A_(M3216A) (Resistor, SMD, 3.2x1.6mm, 1206)
footprint RES_SMD_R1206_(M3216) (Resistor, SMD, 3.2x1.6mm, 1206)
footprint RES_SMD_R2512_(M6332) (Resistor, SMD, 2510)
footprint RES_SMD_R0603_(M1608)_R0402A_(M1005A) (Resistor, SMD, 1.6x0.8mm, 0603)
pins: 1, 2

## RES_SMD_15KΩ
designator R?, comment 15kΩ
Resistor, Thick Film Resistor, SMD, 15kΩ, ±5%, Chip Resistor - Surface Mount, ROHS; Value: 15kΩ
footprint RES_SMD_R0201A_(M0603A) (Resistor, SMD, 0.5x0.25mm, 0201)
footprint RES_SMD_R0201_(M0603) (Resistor, SMD, 0.5x0.25mm, 0201)
footprint RES_SMD_R0402A_(M1005A) (Resistor, SMD, 1.0x0.5mm, 0402)
footprint RES_SMD_R0402_(M1005) (Resistor, SMD, 1.0x0.5mm, 0402)
footprint RES_SMD_R0603A_(M1608A) (Resistor, SMD, 1.6x0.8mm, 0603)
footprint RES_SMD_R0603_(M1608) (Resistor, SMD, 1.6x0.8mm, 0603)
footprint RES_SMD_R0805A_(M2012A) (Resistor, SMD, 2.0x1.3mm, 0805)
footprint RES_SMD_R0805_(M2012) (Resistor, SMD, 2.0x1.3mm, 0805)
footprint RES_SMD_R1206A_(M3216A) (Resistor, SMD, 3.2x1.6mm, 1206)
footprint RES_SMD_R1206_(M3216) (Resistor, SMD, 3.2x1.6mm, 1206)
footprint RES_SMD_R2512_(M6332) (Resistor, SMD, 2510)
footprint RES_SMD_R0603_(M1608)_R0402A_(M1005A) (Resistor, SMD, 1.6x0.8mm, 0603)
pins: 1, 2

## RES_SMD_18.2KΩ
designator R?, comment 18.2kΩ
Resistor, Thick Film Resistor, SMD, 18.2kΩ, ±5%, Chip Resistor - Surface Mount, ROHS; Value: 18.2kΩ
footprint RES_SMD_R0201A_(M0603A) (Resistor, SMD, 0.5x0.25mm, 0201)
footprint RES_SMD_R0201_(M0603) (Resistor, SMD, 0.5x0.25mm, 0201)
footprint RES_SMD_R0402A_(M1005A) (Resistor, SMD, 1.0x0.5mm, 0402)
footprint RES_SMD_R0402_(M1005) (Resistor, SMD, 1.0x0.5mm, 0402)
footprint RES_SMD_R0603A_(M1608A) (Resistor, SMD, 1.6x0.8mm, 0603)
footprint RES_SMD_R0603_(M1608) (Resistor, SMD, 1.6x0.8mm, 0603)
footprint RES_SMD_R0805A_(M2012A) (Resistor, SMD, 2.0x1.3mm, 0805)
footprint RES_SMD_R0805_(M2012) (Resistor, SMD, 2.0x1.3mm, 0805)
footprint RES_SMD_R1206A_(M3216A) (Resistor, SMD, 3.2x1.6mm, 1206)
footprint RES_SMD_R1206_(M3216) (Resistor, SMD, 3.2x1.6mm, 1206)
footprint RES_SMD_R2512_(M6332) (Resistor, SMD, 2510)
footprint RES_SMD_R0603_(M1608)_R0402A_(M1005A) (Resistor, SMD, 1.6x0.8mm, 0603)
pins: 1, 2

## RES_SMD_18Ω
designator R?, comment 18Ω
Resistor, Thick Film Resistor, SMD, 18Ω, ±5%, Chip Resistor - Surface Mount, ROHS; Value: 18Ω
footprint RES_SMD_R0201A_(M0603A) (Resistor, SMD, 0.5x0.25mm, 0201)
footprint RES_SMD_R0201_(M0603) (Resistor, SMD, 0.5x0.25mm, 0201)
footprint RES_SMD_R0402A_(M1005A) (Resistor, SMD, 1.0x0.5mm, 0402)
footprint RES_SMD_R0402_(M1005) (Resistor, SMD, 1.0x0.5mm, 0402)
footprint RES_SMD_R0603A_(M1608A) (Resistor, SMD, 1.6x0.8mm, 0603)
footprint RES_SMD_R0603_(M1608) (Resistor, SMD, 1.6x0.8mm, 0603)
footprint RES_SMD_R0805A_(M2012A) (Resistor, SMD, 2.0x1.3mm, 0805)
footprint RES_SMD_R0805_(M2012) (Resistor, SMD, 2.0x1.3mm, 0805)
footprint RES_SMD_R1206A_(M3216A) (Resistor, SMD, 3.2x1.6mm, 1206)
footprint RES_SMD_R1206_(M3216) (Resistor, SMD, 3.2x1.6mm, 1206)
footprint RES_SMD_R2512_(M6332) (Resistor, SMD, 2510)
footprint RES_SMD_R0603_(M1608)_R0402A_(M1005A) (Resistor, SMD, 1.6x0.8mm, 0603)
pins: 1, 2

## RES_SMD_19.1KΩ
designator R?, comment 19.1kΩ
Resistor, Thick Film Resistor, SMD, 19.1kΩ, ±5%, Chip Resistor - Surface Mount, ROHS; Value: 19.1kΩ
footprint RES_SMD_R0201A_(M0603A) (Resistor, SMD, 0.5x0.25mm, 0201)
footprint RES_SMD_R0201_(M0603) (Resistor, SMD, 0.5x0.25mm, 0201)
footprint RES_SMD_R0402A_(M1005A) (Resistor, SMD, 1.0x0.5mm, 0402)
footprint RES_SMD_R0402_(M1005) (Resistor, SMD, 1.0x0.5mm, 0402)
footprint RES_SMD_R0603A_(M1608A) (Resistor, SMD, 1.6x0.8mm, 0603)
footprint RES_SMD_R0603_(M1608) (Resistor, SMD, 1.6x0.8mm, 0603)
footprint RES_SMD_R0805A_(M2012A) (Resistor, SMD, 2.0x1.3mm, 0805)
footprint RES_SMD_R0805_(M2012) (Resistor, SMD, 2.0x1.3mm, 0805)
footprint RES_SMD_R1206A_(M3216A) (Resistor, SMD, 3.2x1.6mm, 1206)
footprint RES_SMD_R1206_(M3216) (Resistor, SMD, 3.2x1.6mm, 1206)
footprint RES_SMD_R2512_(M6332) (Resistor, SMD, 2510)
footprint RES_SMD_R0603_(M1608)_R0402A_(M1005A) (Resistor, SMD, 1.6x0.8mm, 0603)
pins: 1, 2

## RES_SMD_20KΩ
designator R?, comment 20kΩ
Resistor, Thick Film Resistor, SMD, 20kΩ, ±5%, Chip Resistor - Surface Mount, ROHS; Value: 20kΩ
footprint RES_SMD_R0201A_(M0603A) (Resistor, SMD, 0.5x0.25mm, 0201)
footprint RES_SMD_R0201_(M0603) (Resistor, SMD, 0.5x0.25mm, 0201)
footprint RES_SMD_R0402A_(M1005A) (Resistor, SMD, 1.0x0.5mm, 0402)
footprint RES_SMD_R0402_(M1005) (Resistor, SMD, 1.0x0.5mm, 0402)
footprint RES_SMD_R0603A_(M1608A) (Resistor, SMD, 1.6x0.8mm, 0603)
footprint RES_SMD_R0603_(M1608) (Resistor, SMD, 1.6x0.8mm, 0603)
footprint RES_SMD_R0805A_(M2012A) (Resistor, SMD, 2.0x1.3mm, 0805)
footprint RES_SMD_R0805_(M2012) (Resistor, SMD, 2.0x1.3mm, 0805)
footprint RES_SMD_R1206A_(M3216A) (Resistor, SMD, 3.2x1.6mm, 1206)
footprint RES_SMD_R1206_(M3216) (Resistor, SMD, 3.2x1.6mm, 1206)
footprint RES_SMD_R2512_(M6332) (Resistor, SMD, 2510)
footprint RES_SMD_R0603_(M1608)_R0402A_(M1005A) (Resistor, SMD, 1.6x0.8mm, 0603)
pins: 1, 2

## RES_SMD_20Ω
designator R?, comment 20Ω
Resistor, Thick Film Resistor, SMD, 20Ω, ±5%, Chip Resistor - Surface Mount, ROHS; Value: 20Ω
footprint RES_SMD_R0201A_(M0603A) (Resistor, SMD, 0.5x0.25mm, 0201)
footprint RES_SMD_R0201_(M0603) (Resistor, SMD, 0.5x0.25mm, 0201)
footprint RES_SMD_R0402A_(M1005A) (Resistor, SMD, 1.0x0.5mm, 0402)
footprint RES_SMD_R0402_(M1005) (Resistor, SMD, 1.0x0.5mm, 0402)
footprint RES_SMD_R0603A_(M1608A) (Resistor, SMD, 1.6x0.8mm, 0603)
footprint RES_SMD_R0603_(M1608) (Resistor, SMD, 1.6x0.8mm, 0603)
footprint RES_SMD_R0805A_(M2012A) (Resistor, SMD, 2.0x1.3mm, 0805)
footprint RES_SMD_R0805_(M2012) (Resistor, SMD, 2.0x1.3mm, 0805)
footprint RES_SMD_R1206A_(M3216A) (Resistor, SMD, 3.2x1.6mm, 1206)
footprint RES_SMD_R1206_(M3216) (Resistor, SMD, 3.2x1.6mm, 1206)
footprint RES_SMD_R2512_(M6332) (Resistor, SMD, 2510)
footprint RES_SMD_R0603_(M1608)_R0402A_(M1005A) (Resistor, SMD, 1.6x0.8mm, 0603)
pins: 1, 2

## RES_SMD_21.5KΩ
designator R?, comment 21.5kΩ
Resistor, Thick Film Resistor, SMD, 21.5kΩ, ±5%, Chip Resistor - Surface Mount, ROHS; Value: 21.5kΩ
footprint RES_SMD_R0201A_(M0603A) (Resistor, SMD, 0.5x0.25mm, 0201)
footprint RES_SMD_R0201_(M0603) (Resistor, SMD, 0.5x0.25mm, 0201)
footprint RES_SMD_R0402A_(M1005A) (Resistor, SMD, 1.0x0.5mm, 0402)
footprint RES_SMD_R0402_(M1005) (Resistor, SMD, 1.0x0.5mm, 0402)
footprint RES_SMD_R0603A_(M1608A) (Resistor, SMD, 1.6x0.8mm, 0603)
footprint RES_SMD_R0603_(M1608) (Resistor, SMD, 1.6x0.8mm, 0603)
footprint RES_SMD_R0805A_(M2012A) (Resistor, SMD, 2.0x1.3mm, 0805)
footprint RES_SMD_R0805_(M2012) (Resistor, SMD, 2.0x1.3mm, 0805)
footprint RES_SMD_R1206A_(M3216A) (Resistor, SMD, 3.2x1.6mm, 1206)
footprint RES_SMD_R1206_(M3216) (Resistor, SMD, 3.2x1.6mm, 1206)
footprint RES_SMD_R2512_(M6332) (Resistor, SMD, 2510)
footprint RES_SMD_R0603_(M1608)_R0402A_(M1005A) (Resistor, SMD, 1.6x0.8mm, 0603)
pins: 1, 2

## RES_SMD_21KΩ
designator R?, comment 21kΩ
Resistor, Thick Film Resistor, SMD, 21kΩ, ±5%, Chip Resistor - Surface Mount, ROHS; Value: 21kΩ
footprint RES_SMD_R0201A_(M0603A) (Resistor, SMD, 0.5x0.25mm, 0201)
footprint RES_SMD_R0201_(M0603) (Resistor, SMD, 0.5x0.25mm, 0201)
footprint RES_SMD_R0402A_(M1005A) (Resistor, SMD, 1.0x0.5mm, 0402)
footprint RES_SMD_R0402_(M1005) (Resistor, SMD, 1.0x0.5mm, 0402)
footprint RES_SMD_R0603A_(M1608A) (Resistor, SMD, 1.6x0.8mm, 0603)
footprint RES_SMD_R0603_(M1608) (Resistor, SMD, 1.6x0.8mm, 0603)
footprint RES_SMD_R0805A_(M2012A) (Resistor, SMD, 2.0x1.3mm, 0805)
footprint RES_SMD_R0805_(M2012) (Resistor, SMD, 2.0x1.3mm, 0805)
footprint RES_SMD_R1206A_(M3216A) (Resistor, SMD, 3.2x1.6mm, 1206)
footprint RES_SMD_R1206_(M3216) (Resistor, SMD, 3.2x1.6mm, 1206)
footprint RES_SMD_R2512_(M6332) (Resistor, SMD, 2510)
footprint RES_SMD_R0603_(M1608)_R0402A_(M1005A) (Resistor, SMD, 1.6x0.8mm, 0603)
pins: 1, 2

## RES_SMD_22KΩ
designator R?, comment 22kΩ
Resistor, Thick Film Resistor, SMD, 22kΩ, ±5%, Chip Resistor - Surface Mount, ROHS; Value: 22kΩ
footprint RES_SMD_R0201A_(M0603A) (Resistor, SMD, 0.5x0.25mm, 0201)
footprint RES_SMD_R0201_(M0603) (Resistor, SMD, 0.5x0.25mm, 0201)
footprint RES_SMD_R0402A_(M1005A) (Resistor, SMD, 1.0x0.5mm, 0402)
footprint RES_SMD_R0402_(M1005) (Resistor, SMD, 1.0x0.5mm, 0402)
footprint RES_SMD_R0603A_(M1608A) (Resistor, SMD, 1.6x0.8mm, 0603)
footprint RES_SMD_R0603_(M1608) (Resistor, SMD, 1.6x0.8mm, 0603)
footprint RES_SMD_R0805A_(M2012A) (Resistor, SMD, 2.0x1.3mm, 0805)
footprint RES_SMD_R0805_(M2012) (Resistor, SMD, 2.0x1.3mm, 0805)
footprint RES_SMD_R1206A_(M3216A) (Resistor, SMD, 3.2x1.6mm, 1206)
footprint RES_SMD_R1206_(M3216) (Resistor, SMD, 3.2x1.6mm, 1206)
footprint RES_SMD_R2512_(M6332) (Resistor, SMD, 2510)
footprint RES_SMD_R0603_(M1608)_R0402A_(M1005A) (Resistor, SMD, 1.6x0.8mm, 0603)
pins: 1, 2

## RES_SMD_23.7KΩ
designator R?, comment 23.7kΩ
Resistor, Thick Film Resistor, SMD, 23.7kΩ, ±5%, Chip Resistor - Surface Mount, ROHS; Value: 23.7kΩ
footprint RES_SMD_R0201A_(M0603A) (Resistor, SMD, 0.5x0.25mm, 0201)
footprint RES_SMD_R0201_(M0603) (Resistor, SMD, 0.5x0.25mm, 0201)
footprint RES_SMD_R0402A_(M1005A) (Resistor, SMD, 1.0x0.5mm, 0402)
footprint RES_SMD_R0402_(M1005) (Resistor, SMD, 1.0x0.5mm, 0402)
footprint RES_SMD_R0603A_(M1608A) (Resistor, SMD, 1.6x0.8mm, 0603)
footprint RES_SMD_R0603_(M1608) (Resistor, SMD, 1.6x0.8mm, 0603)
footprint RES_SMD_R0805A_(M2012A) (Resistor, SMD, 2.0x1.3mm, 0805)
footprint RES_SMD_R0805_(M2012) (Resistor, SMD, 2.0x1.3mm, 0805)
footprint RES_SMD_R1206A_(M3216A) (Resistor, SMD, 3.2x1.6mm, 1206)
footprint RES_SMD_R1206_(M3216) (Resistor, SMD, 3.2x1.6mm, 1206)
footprint RES_SMD_R2512_(M6332) (Resistor, SMD, 2510)
footprint RES_SMD_R0603_(M1608)_R0402A_(M1005A) (Resistor, SMD, 1.6x0.8mm, 0603)
pins: 1, 2

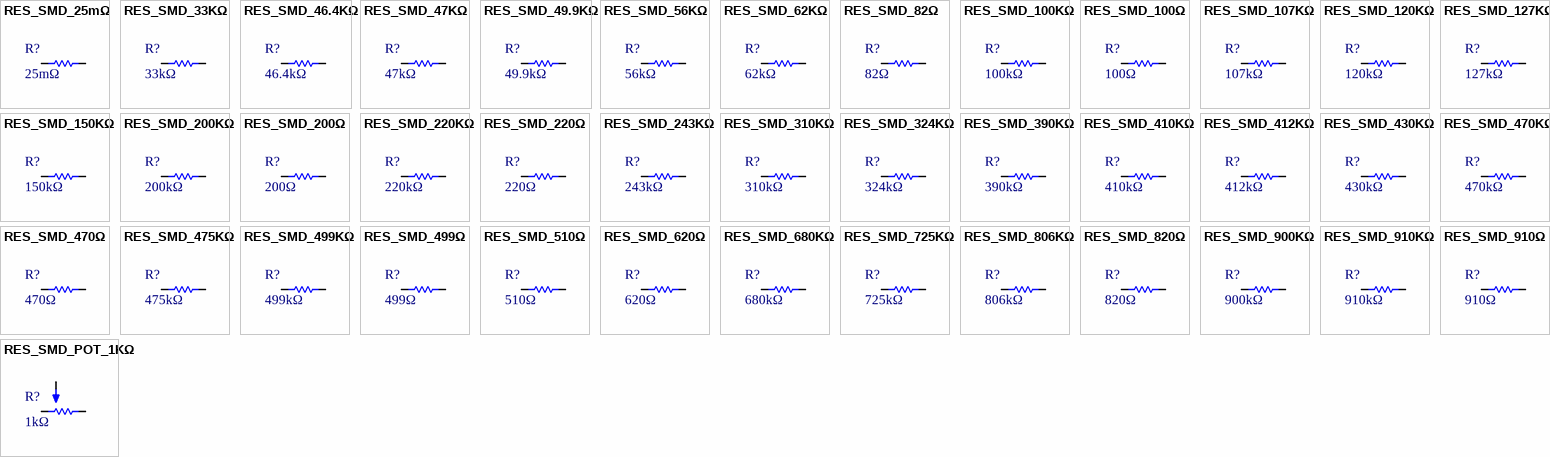
[diagram p1: symbols RES_SMD_25mΩ to RES_SMD_POT_1KΩ]

## RES_SMD_25mΩ
designator R?, comment 25mΩ
Resistor, Thick Film Resistor, SMD, 25mΩ, ±5%, Chip Resistor - Surface Mount, ROHS; Value: 25mΩ
footprint RES_SMD_R0201A_(M0603A) (Resistor, SMD, 0.5x0.25mm, 0201)
footprint RES_SMD_R0201_(M0603) (Resistor, SMD, 0.5x0.25mm, 0201)
footprint RES_SMD_R0402A_(M1005A) (Resistor, SMD, 1.0x0.5mm, 0402)
footprint RES_SMD_R0402_(M1005) (Resistor, SMD, 1.0x0.5mm, 0402)
footprint RES_SMD_R0603A_(M1608A) (Resistor, SMD, 1.6x0.8mm, 0603)
footprint RES_SMD_R0603_(M1608) (Resistor, SMD, 1.6x0.8mm, 0603)
footprint RES_SMD_R0805A_(M2012A) (Resistor, SMD, 2.0x1.3mm, 0805)
footprint RES_SMD_R0805_(M2012) (Resistor, SMD, 2.0x1.3mm, 0805)
footprint RES_SMD_R1206A_(M3216A) (Resistor, SMD, 3.2x1.6mm, 1206)
footprint RES_SMD_R1206_(M3216) (Resistor, SMD, 3.2x1.6mm, 1206)
footprint RES_SMD_R2512_(M6332) (Resistor, SMD, 2510)
footprint RES_SMD_R0603_(M1608)_R0402A_(M1005A) (Resistor, SMD, 1.6x0.8mm, 0603)
pins: 1, 2

## RES_SMD_33KΩ
designator R?, comment 33kΩ
Resistor, Thick Film Resistor, SMD, 33kΩ, ±5%, Chip Resistor - Surface Mount, ROHS; Value: 33kΩ
footprint RES_SMD_R0201A_(M0603A) (Resistor, SMD, 0.5x0.25mm, 0201)
footprint RES_SMD_R0201_(M0603) (Resistor, SMD, 0.5x0.25mm, 0201)
footprint RES_SMD_R0402A_(M1005A) (Resistor, SMD, 1.0x0.5mm, 0402)
footprint RES_SMD_R0402_(M1005) (Resistor, SMD, 1.0x0.5mm, 0402)
footprint RES_SMD_R0603A_(M1608A) (Resistor, SMD, 1.6x0.8mm, 0603)
footprint RES_SMD_R0603_(M1608) (Resistor, SMD, 1.6x0.8mm, 0603)
footprint RES_SMD_R0805A_(M2012A) (Resistor, SMD, 2.0x1.3mm, 0805)
footprint RES_SMD_R0805_(M2012) (Resistor, SMD, 2.0x1.3mm, 0805)
footprint RES_SMD_R1206A_(M3216A) (Resistor, SMD, 3.2x1.6mm, 1206)
footprint RES_SMD_R1206_(M3216) (Resistor, SMD, 3.2x1.6mm, 1206)
footprint RES_SMD_R2512_(M6332) (Resistor, SMD, 2510)
footprint RES_SMD_R0603_(M1608)_R0402A_(M1005A) (Resistor, SMD, 1.6x0.8mm, 0603)
pins: 1, 2

## RES_SMD_46.4KΩ
designator R?, comment 46.4kΩ
Resistor, Thick Film Resistor, SMD, 46.4kΩ, ±5%, Chip Resistor - Surface Mount, ROHS; Value: 46.4kΩ
footprint RES_SMD_R0201A_(M0603A) (Resistor, SMD, 0.5x0.25mm, 0201)
footprint RES_SMD_R0201_(M0603) (Resistor, SMD, 0.5x0.25mm, 0201)
footprint RES_SMD_R0402A_(M1005A) (Resistor, SMD, 1.0x0.5mm, 0402)
footprint RES_SMD_R0402_(M1005) (Resistor, SMD, 1.0x0.5mm, 0402)
footprint RES_SMD_R0603A_(M1608A) (Resistor, SMD, 1.6x0.8mm, 0603)
footprint RES_SMD_R0603_(M1608) (Resistor, SMD, 1.6x0.8mm, 0603)
footprint RES_SMD_R0805A_(M2012A) (Resistor, SMD, 2.0x1.3mm, 0805)
footprint RES_SMD_R0805_(M2012) (Resistor, SMD, 2.0x1.3mm, 0805)
footprint RES_SMD_R1206A_(M3216A) (Resistor, SMD, 3.2x1.6mm, 1206)
footprint RES_SMD_R1206_(M3216) (Resistor, SMD, 3.2x1.6mm, 1206)
footprint RES_SMD_R2512_(M6332) (Resistor, SMD, 2510)
footprint RES_SMD_R0603_(M1608)_R0402A_(M1005A) (Resistor, SMD, 1.6x0.8mm, 0603)
pins: 1, 2

## RES_SMD_47KΩ
designator R?, comment 47kΩ
Resistor, Thick Film Resistor, SMD, 47kΩ, ±5%, Chip Resistor - Surface Mount, ROHS; Value: 47kΩ
footprint RES_SMD_R0201A_(M0603A) (Resistor, SMD, 0.5x0.25mm, 0201)
footprint RES_SMD_R0201_(M0603) (Resistor, SMD, 0.5x0.25mm, 0201)
footprint RES_SMD_R0402A_(M1005A) (Resistor, SMD, 1.0x0.5mm, 0402)
footprint RES_SMD_R0402_(M1005) (Resistor, SMD, 1.0x0.5mm, 0402)
footprint RES_SMD_R0603A_(M1608A) (Resistor, SMD, 1.6x0.8mm, 0603)
footprint RES_SMD_R0603_(M1608) (Resistor, SMD, 1.6x0.8mm, 0603)
footprint RES_SMD_R0805A_(M2012A) (Resistor, SMD, 2.0x1.3mm, 0805)
footprint RES_SMD_R0805_(M2012) (Resistor, SMD, 2.0x1.3mm, 0805)
footprint RES_SMD_R1206A_(M3216A) (Resistor, SMD, 3.2x1.6mm, 1206)
footprint RES_SMD_R1206_(M3216) (Resistor, SMD, 3.2x1.6mm, 1206)
footprint RES_SMD_R2512_(M6332) (Resistor, SMD, 2510)
footprint Model Name (Model Description)
footprint RES_SMD_R0603_(M1608)_R0402A_(M1005A) (Resistor, SMD, 1.6x0.8mm, 0603)
pins: 1, 2

## RES_SMD_49.9KΩ
designator R?, comment 49.9kΩ
Resistor, Thick Film Resistor, SMD, 49.9kΩ, ±5%, Chip Resistor - Surface Mount, ROHS; Value: 49.9kΩ
footprint RES_SMD_R0201A_(M0603A) (Resistor, SMD, 0.5x0.25mm, 0201)
footprint RES_SMD_R0201_(M0603) (Resistor, SMD, 0.5x0.25mm, 0201)
footprint RES_SMD_R0402A_(M1005A) (Resistor, SMD, 1.0x0.5mm, 0402)
footprint RES_SMD_R0402_(M1005) (Resistor, SMD, 1.0x0.5mm, 0402)
footprint RES_SMD_R0603A_(M1608A) (Resistor, SMD, 1.6x0.8mm, 0603)
footprint RES_SMD_R0603_(M1608) (Resistor, SMD, 1.6x0.8mm, 0603)
footprint RES_SMD_R0805A_(M2012A) (Resistor, SMD, 2.0x1.3mm, 0805)
footprint RES_SMD_R0805_(M2012) (Resistor, SMD, 2.0x1.3mm, 0805)
footprint RES_SMD_R1206A_(M3216A) (Resistor, SMD, 3.2x1.6mm, 1206)
footprint RES_SMD_R1206_(M3216) (Resistor, SMD, 3.2x1.6mm, 1206)
footprint RES_SMD_R2512_(M6332) (Resistor, SMD, 2510)
footprint RES_SMD_R0603_(M1608)_R0402A_(M1005A) (Resistor, SMD, 1.6x0.8mm, 0603)
pins: 1, 2

## RES_SMD_56KΩ
designator R?, comment 56kΩ
Resistor, Thick Film Resistor, SMD, 56kΩ, ±5%, Chip Resistor - Surface Mount, ROHS; Value: 56kΩ
footprint RES_SMD_R0201A_(M0603A) (Resistor, SMD, 0.5x0.25mm, 0201)
footprint RES_SMD_R0201_(M0603) (Resistor, SMD, 0.5x0.25mm, 0201)
footprint RES_SMD_R0402A_(M1005A) (Resistor, SMD, 1.0x0.5mm, 0402)
footprint RES_SMD_R0402_(M1005) (Resistor, SMD, 1.0x0.5mm, 0402)
footprint RES_SMD_R0603A_(M1608A) (Resistor, SMD, 1.6x0.8mm, 0603)
footprint RES_SMD_R0603_(M1608) (Resistor, SMD, 1.6x0.8mm, 0603)
footprint RES_SMD_R0805A_(M2012A) (Resistor, SMD, 2.0x1.3mm, 0805)
footprint RES_SMD_R0805_(M2012) (Resistor, SMD, 2.0x1.3mm, 0805)
footprint RES_SMD_R1206A_(M3216A) (Resistor, SMD, 3.2x1.6mm, 1206)
footprint RES_SMD_R1206_(M3216) (Resistor, SMD, 3.2x1.6mm, 1206)
footprint RES_SMD_R2512_(M6332) (Resistor, SMD, 2510)
footprint RES_SMD_R0603_(M1608)_R0402A_(M1005A) (Resistor, SMD, 1.6x0.8mm, 0603)
pins: 1, 2

## RES_SMD_62KΩ
designator R?, comment 62kΩ
Resistor, Thick Film Resistor, SMD, 62kΩ, ±5%, Chip Resistor - Surface Mount, ROHS; Value: 62kΩ
footprint RES_SMD_R0201A_(M0603A) (Resistor, SMD, 0.5x0.25mm, 0201)
footprint RES_SMD_R0201_(M0603) (Resistor, SMD, 0.5x0.25mm, 0201)
footprint RES_SMD_R0402A_(M1005A) (Resistor, SMD, 1.0x0.5mm, 0402)
footprint RES_SMD_R0402_(M1005) (Resistor, SMD, 1.0x0.5mm, 0402)
footprint RES_SMD_R0603A_(M1608A) (Resistor, SMD, 1.6x0.8mm, 0603)
footprint RES_SMD_R0603_(M1608) (Resistor, SMD, 1.6x0.8mm, 0603)
footprint RES_SMD_R0805A_(M2012A) (Resistor, SMD, 2.0x1.3mm, 0805)
footprint RES_SMD_R0805_(M2012) (Resistor, SMD, 2.0x1.3mm, 0805)
footprint RES_SMD_R1206A_(M3216A) (Resistor, SMD, 3.2x1.6mm, 1206)
footprint RES_SMD_R1206_(M3216) (Resistor, SMD, 3.2x1.6mm, 1206)
footprint RES_SMD_R2512_(M6332) (Resistor, SMD, 2510)
footprint RES_SMD_R0603_(M1608)_R0402A_(M1005A) (Resistor, SMD, 1.6x0.8mm, 0603)
pins: 1, 2

## RES_SMD_82Ω
designator R?, comment 82Ω
Resistor, Thick Film Resistor, SMD, 82Ω, ±5%, Chip Resistor - Surface Mount, ROHS; Value: 82Ω
footprint RES_SMD_R0201A_(M0603A) (Resistor, SMD, 0.5x0.25mm, 0201)
footprint RES_SMD_R0201_(M0603) (Resistor, SMD, 0.5x0.25mm, 0201)
footprint RES_SMD_R0402A_(M1005A) (Resistor, SMD, 1.0x0.5mm, 0402)
footprint RES_SMD_R0402_(M1005) (Resistor, SMD, 1.0x0.5mm, 0402)
footprint RES_SMD_R0603A_(M1608A) (Resistor, SMD, 1.6x0.8mm, 0603)
footprint RES_SMD_R0603_(M1608) (Resistor, SMD, 1.6x0.8mm, 0603)
footprint RES_SMD_R0805A_(M2012A) (Resistor, SMD, 2.0x1.3mm, 0805)
footprint RES_SMD_R0805_(M2012) (Resistor, SMD, 2.0x1.3mm, 0805)
footprint RES_SMD_R1206A_(M3216A) (Resistor, SMD, 3.2x1.6mm, 1206)
footprint RES_SMD_R1206_(M3216) (Resistor, SMD, 3.2x1.6mm, 1206)
footprint RES_SMD_R2512_(M6332) (Resistor, SMD, 2510)
footprint RES_SMD_R0603_(M1608)_R0402A_(M1005A) (Resistor, SMD, 1.6x0.8mm, 0603)
pins: 1, 2

## RES_SMD_100KΩ
designator R?, comment 100kΩ
Resistor, Thick Film Resistor, SMD, 100kΩ, ±5%, Chip Resistor - Surface Mount, ROHS; Value: 100kΩ
footprint RES_SMD_R0201A_(M0603A) (Resistor, SMD, 0.5x0.25mm, 0201)
footprint RES_SMD_R0201_(M0603) (Resistor, SMD, 0.5x0.25mm, 0201)
footprint RES_SMD_R0402A_(M1005A) (Resistor, SMD, 1.0x0.5mm, 0402)
footprint RES_SMD_R0402_(M1005) (Resistor, SMD, 1.0x0.5mm, 0402)
footprint RES_SMD_R0603A_(M1608A) (Resistor, SMD, 1.6x0.8mm, 0603)
footprint RES_SMD_R0603_(M1608) (Resistor, SMD, 1.6x0.8mm, 0603)
footprint RES_SMD_R0805A_(M2012A) (Resistor, SMD, 2.0x1.3mm, 0805)
footprint RES_SMD_R0805_(M2012) (Resistor, SMD, 2.0x1.3mm, 0805)
footprint RES_SMD_R1206A_(M3216A) (Resistor, SMD, 3.2x1.6mm, 1206)
footprint RES_SMD_R1206_(M3216) (Resistor, SMD, 3.2x1.6mm, 1206)
footprint RES_SMD_R2512_(M6332) (Resistor, SMD, 2510)
footprint RES_SMD_R0603_(M1608)_R0402A_(M1005A) (Resistor, SMD, 1.6x0.8mm, 0603)
pins: 1, 2

## RES_SMD_100Ω
designator R?, comment 100Ω
Resistor, Thick Film Resistor, SMD, 100Ω, ±5%, Chip Resistor - Surface Mount, ROHS; Value: 100Ω
footprint RES_SMD_R0201A_(M0603A) (Resistor, SMD, 0.5x0.25mm, 0201)
footprint RES_SMD_R0201_(M0603) (Resistor, SMD, 0.5x0.25mm, 0201)
footprint RES_SMD_R0402A_(M1005A) (Resistor, SMD, 1.0x0.5mm, 0402)
footprint RES_SMD_R0402_(M1005) (Resistor, SMD, 1.0x0.5mm, 0402)
footprint RES_SMD_R0603A_(M1608A) (Resistor, SMD, 1.6x0.8mm, 0603)
footprint RES_SMD_R0603_(M1608) (Resistor, SMD, 1.6x0.8mm, 0603)
footprint RES_SMD_R0805A_(M2012A) (Resistor, SMD, 2.0x1.3mm, 0805)
footprint RES_SMD_R0805_(M2012) (Resistor, SMD, 2.0x1.3mm, 0805)
footprint RES_SMD_R1206A_(M3216A) (Resistor, SMD, 3.2x1.6mm, 1206)
footprint RES_SMD_R1206_(M3216) (Resistor, SMD, 3.2x1.6mm, 1206)
footprint RES_SMD_R2512_(M6332) (Resistor, SMD, 2510)
footprint RES_SMD_R0603_(M1608)_R0402A_(M1005A) (Resistor, SMD, 1.6x0.8mm, 0603)
pins: 1, 2

## RES_SMD_107KΩ
designator R?, comment 107kΩ
Resistor, Thick Film Resistor, SMD, 107kΩ, ±5%, Chip Resistor - Surface Mount, ROHS; Value: 107kΩ
footprint RES_SMD_R0201A_(M0603A) (Resistor, SMD, 0.5x0.25mm, 0201)
footprint RES_SMD_R0201_(M0603) (Resistor, SMD, 0.5x0.25mm, 0201)
footprint RES_SMD_R0402A_(M1005A) (Resistor, SMD, 1.0x0.5mm, 0402)
footprint RES_SMD_R0402_(M1005) (Resistor, SMD, 1.0x0.5mm, 0402)
footprint RES_SMD_R0603A_(M1608A) (Resistor, SMD, 1.6x0.8mm, 0603)
footprint RES_SMD_R0603_(M1608) (Resistor, SMD, 1.6x0.8mm, 0603)
footprint RES_SMD_R0805A_(M2012A) (Resistor, SMD, 2.0x1.3mm, 0805)
footprint RES_SMD_R0805_(M2012) (Resistor, SMD, 2.0x1.3mm, 0805)
footprint RES_SMD_R1206A_(M3216A) (Resistor, SMD, 3.2x1.6mm, 1206)
footprint RES_SMD_R1206_(M3216) (Resistor, SMD, 3.2x1.6mm, 1206)
footprint RES_SMD_R2512_(M6332) (Resistor, SMD, 2510)
footprint RES_SMD_R0603_(M1608)_R0402A_(M1005A) (Resistor, SMD, 1.6x0.8mm, 0603)
pins: 1, 2

## RES_SMD_120KΩ
designator R?, comment 120kΩ
Resistor, Thick Film Resistor, SMD, 120kΩ, ±5%, Chip Resistor - Surface Mount, ROHS; Value: 120kΩ
footprint RES_SMD_R0201A_(M0603A) (Resistor, SMD, 0.5x0.25mm, 0201)
footprint RES_SMD_R0201_(M0603) (Resistor, SMD, 0.5x0.25mm, 0201)
footprint RES_SMD_R0402A_(M1005A) (Resistor, SMD, 1.0x0.5mm, 0402)
footprint RES_SMD_R0402_(M1005) (Resistor, SMD, 1.0x0.5mm, 0402)
footprint RES_SMD_R0603A_(M1608A) (Resistor, SMD, 1.6x0.8mm, 0603)
footprint RES_SMD_R0603_(M1608) (Resistor, SMD, 1.6x0.8mm, 0603)
footprint RES_SMD_R0805A_(M2012A) (Resistor, SMD, 2.0x1.3mm, 0805)
footprint RES_SMD_R0805_(M2012) (Resistor, SMD, 2.0x1.3mm, 0805)
footprint RES_SMD_R1206A_(M3216A) (Resistor, SMD, 3.2x1.6mm, 1206)
footprint RES_SMD_R1206_(M3216) (Resistor, SMD, 3.2x1.6mm, 1206)
footprint RES_SMD_R2512_(M6332) (Resistor, SMD, 2510)
footprint RES_SMD_R0603_(M1608)_R0402A_(M1005A) (Resistor, SMD, 1.6x0.8mm, 0603)
pins: 1, 2